# Altium footprint library PLS_Connector.PcbLib: 20 footprints (part 2 of 2)
Each footprint in its own frame and in the unit in brackets; x right, y up, seen from the top. Pads: shape width x height; smd on the part's side, far side on the other; paste and mask are expansions set on the pad; w line width, h text height; cw(c..) or ccw(c..) is an arc to the next point about the centre after c.
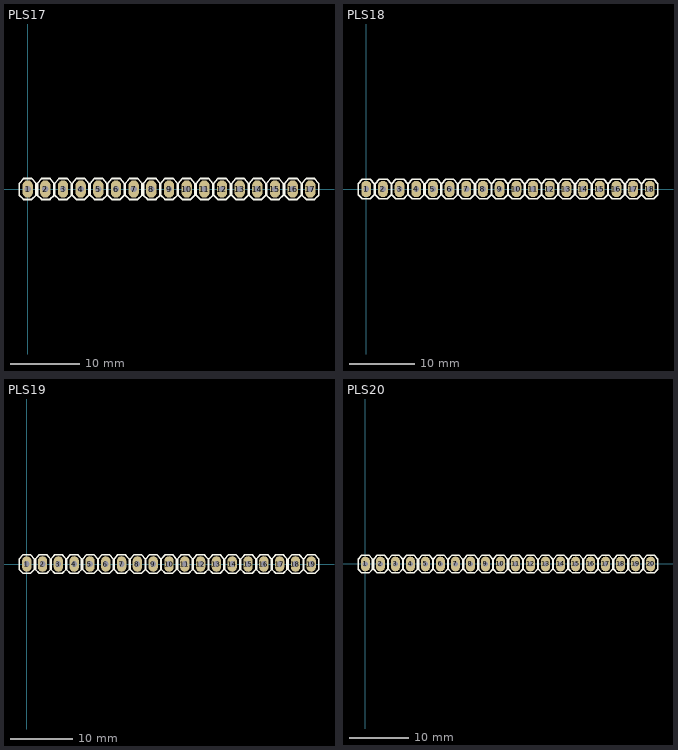
[diagram p1: the footprints below, top view; thin cyan lines are the x and y axes]

## PLS17 [mm]
pads (17):
  oval 1.5x2.5 hole 0.9: 1(0,0) 2(2.54,0) 3(5.08,0) 4(7.62,0) 5(10.16,0) 6(12.7,0) 7(15.24,0) 8(17.78,0) 9(20.32,0) 10(22.86,0) 11(25.4,0) 12(27.94,0) 13(30.48,0) 14(33.02,0) 15(35.56,0) 16(38.1,0) 17(40.64,0)
Top Overlay:
  lines w0.254: 29.14,-0.9 29.14,0.8 ; 29.14,-0.9 28.54,-1.5 27.34,-1.5 26.74,-0.9 26.74,0.8 27.34,1.5 28.54,1.5 29.14,0.8 ; 29.14,-0.9 29.14,0.8 ; -1.2,-0.9 -1.2,0.8 -0.6,1.5 0.6,1.5 1.2,0.8 1.2,-0.9 0.6,-1.5 -0.6,-1.5 -1.2,-0.9 ; 1.4,-0.9 2,-1.5 3.2,-1.5 3.8,-0.9 3.8,0.8 3.2,1.5 2,1.5 1.4,0.8 1.4,-0.9 ; 3.9,-0.9 4.5,-1.5 5.7,-1.5 6.3,-0.9 6.3,0.8 5.7,1.5 4.5,1.5 3.9,0.8 3.9,-0.9 ; 6.4,-0.9 7,-1.5 8.2,-1.5 8.8,-0.9 8.8,0.8 8.2,1.5 7,1.5 6.4,0.8 6.4,-0.9 ; 9,-0.9 9.6,-1.5 10.8,-1.5 11.4,-0.9 11.4,0.8 10.8,1.5 9.6,1.5 9,0.8 9,-0.9 ; 11.5,-0.9 12.1,-1.5 13.3,-1.5 13.9,-0.9 13.9,0.8 13.3,1.5 12.1,1.5 11.5,0.8 11.5,-0.9 ; 14.04,-0.9 14.64,-1.5 15.84,-1.5 16.44,-0.9 16.44,0.8 15.84,1.5 14.64,1.5 14.04,0.8 14.04,-0.9 ; 16.64,-0.9 16.64,0.8 17.24,1.5 18.44,1.5 19.04,0.8 19.04,-0.9 18.44,-1.5 17.24,-1.5 16.64,-0.9 ; 19.14,-0.9 19.14,0.8 19.74,1.5 20.94,1.5 21.54,0.8 21.54,-0.9 20.94,-1.5 19.74,-1.5 19.14,-0.9 ; 21.64,-0.9 21.64,0.8 22.24,1.5 23.44,1.5 24.04,0.8 24.04,-0.9 23.44,-1.5 22.24,-1.5 21.64,-0.9 ; 24.24,-0.9 24.24,0.8 24.84,1.5 26.04,1.5 26.64,0.8 26.64,-0.9 26.04,-1.5 24.84,-1.5 24.24,-0.9 ; 29.34,-0.9 29.94,-1.5 31.14,-1.5 31.74,-0.9 31.74,0.8 31.14,1.5 29.94,1.5 29.34,0.8 29.34,-0.9 ; 31.84,-0.9 32.44,-1.5 33.64,-1.5 34.24,-0.9 34.24,0.8 33.64,1.5 32.44,1.5 31.84,0.8 31.84,-0.9 ; 34.34,-0.9 34.94,-1.5 36.14,-1.5 36.74,-0.9 36.74,0.8 36.14,1.5 34.94,1.5 34.34,0.8 34.34,-0.9 ; 36.94,-0.9 37.54,-1.5 38.74,-1.5 39.34,-0.9 39.34,0.8 38.74,1.5 37.54,1.5 36.94,0.8 36.94,-0.9 ; 39.44,-0.9 40.04,-1.5 41.24,-1.5 41.84,-0.9 41.84,0.8 41.24,1.5 40.04,1.5 39.44,0.8 39.44,-0.9
3D body: height 8.44, standoff -3, extent -1.275,-1.245 41.905,1.295

## PLS18 [mm]
pads (18):
  oval 1.5x2.5 hole 0.9: 1(0,0) 2(2.54,0) 3(5.08,0) 4(7.62,0) 5(10.16,0) 6(12.7,0) 7(15.24,0) 8(17.78,0) 9(20.32,0) 10(22.86,0) 11(25.4,0) 12(27.94,0) 13(30.48,0) 14(33.02,0) 15(35.56,0) 16(38.1,0) 17(40.64,0) 18(43.18,0)
Top Overlay:
  lines w0.254: -1.2,-0.9 -1.2,0.8 -0.6,1.5 0.6,1.5 1.2,0.8 1.2,-0.9 0.6,-1.5 -0.6,-1.5 -1.2,-0.9 ; 1.4,-0.9 2,-1.5 3.2,-1.5 3.8,-0.9 3.8,0.8 3.2,1.5 2,1.5 1.4,0.8 1.4,-0.9 ; 3.9,-0.9 4.5,-1.5 5.7,-1.5 6.3,-0.9 6.3,0.8 5.7,1.5 4.5,1.5 3.9,0.8 3.9,-0.9 ; 6.4,-0.9 7,-1.5 8.2,-1.5 8.8,-0.9 8.8,0.8 8.2,1.5 7,1.5 6.4,0.8 6.4,-0.9 ; 9,-0.9 9.6,-1.5 10.8,-1.5 11.4,-0.9 11.4,0.8 10.8,1.5 9.6,1.5 9,0.8 9,-0.9 ; 11.5,-0.9 12.1,-1.5 13.3,-1.5 13.9,-0.9 13.9,0.8 13.3,1.5 12.1,1.5 11.5,0.8 11.5,-0.9 ; 14.04,-0.9 14.64,-1.5 15.84,-1.5 16.44,-0.9 16.44,0.8 15.84,1.5 14.64,1.5 14.04,0.8 14.04,-0.9 ; 16.64,-0.9 16.64,0.8 17.24,1.5 18.44,1.5 19.04,0.8 19.04,-0.9 18.44,-1.5 17.24,-1.5 16.64,-0.9 ; 19.14,-0.9 19.14,0.8 19.74,1.5 20.94,1.5 21.54,0.8 21.54,-0.9 20.94,-1.5 19.74,-1.5 19.14,-0.9 ; 21.64,-0.9 21.64,0.8 22.24,1.5 23.44,1.5 24.04,0.8 24.04,-0.9 23.44,-1.5 22.24,-1.5 21.64,-0.9 ; 24.24,-0.9 24.24,0.8 24.84,1.5 26.04,1.5 26.64,0.8 26.64,-0.9 26.04,-1.5 24.84,-1.5 24.24,-0.9 ; 26.74,-0.9 26.74,0.8 27.34,1.5 28.54,1.5 29.14,0.8 29.14,-0.9 28.54,-1.5 27.34,-1.5 26.74,-0.9 ; 29.28,-0.9 29.28,0.8 29.88,1.5 31.08,1.5 31.68,0.8 31.68,-0.9 31.08,-1.5 29.88,-1.5 29.28,-0.9 ; 31.88,-0.9 32.48,-1.5 33.68,-1.5 34.28,-0.9 34.28,0.8 33.68,1.5 32.48,1.5 31.88,0.8 31.88,-0.9 ; 34.38,-0.9 34.98,-1.5 36.18,-1.5 36.78,-0.9 36.78,0.8 36.18,1.5 34.98,1.5 34.38,0.8 34.38,-0.9 ; 36.88,-0.9 37.48,-1.5 38.68,-1.5 39.28,-0.9 39.28,0.8 38.68,1.5 37.48,1.5 36.88,0.8 36.88,-0.9 ; 39.48,-0.9 40.08,-1.5 41.28,-1.5 41.88,-0.9 41.88,0.8 41.28,1.5 40.08,1.5 39.48,0.8 39.48,-0.9 ; 41.98,-0.9 42.58,-1.5 43.78,-1.5 44.38,-0.9 44.38,0.8 43.78,1.5 42.58,1.5 41.98,0.8 41.98,-0.9
3D body: height 8.44, standoff -3, extent -1.275,-1.27 44.445,1.27

## PLS19 [mm]
pads (19):
  oval 1.5x2.5 hole 0.9: 1(0,0) 2(2.54,0) 3(5.08,0) 4(7.62,0) 5(10.16,0) 6(12.7,0) 7(15.24,0) 8(17.78,0) 9(20.32,0) 10(22.86,0) 11(25.4,0) 12(27.94,0) 13(30.48,0) 14(33.02,0) 15(35.56,0) 16(38.1,0) 17(40.64,0) 18(43.18,0) 19(45.72,0)
Top Overlay:
  drawing of 153 lines, arcs and shapes, not listed
3D body: height 8.44, standoff -3, extent -1.25,-1.27 47.01,1.27

## PLS20 [mm]
pads (20):
  oval 1.5x2.5 hole 0.9: 1(0,0) 2(2.54,0) 3(5.08,0) 4(7.62,0) 5(10.16,0) 6(12.7,0) 7(15.24,0) 8(17.78,0) 9(20.32,0) 10(22.86,0) 11(25.4,0) 12(27.94,0) 13(30.48,0) 14(33.02,0) 15(35.56,0) 16(38.1,0) 17(40.64,0) 18(43.18,0) 19(45.72,0) 20(48.26,0)
Top Overlay:
  drawing of 162 lines, arcs and shapes, not listed
3D body: height 3, standoff -8.44, extent -1.275,-1.245 49.525,1.295